# EAGLE library part MWSUB3G (library signpost)
An RF Spectrum analyzer module
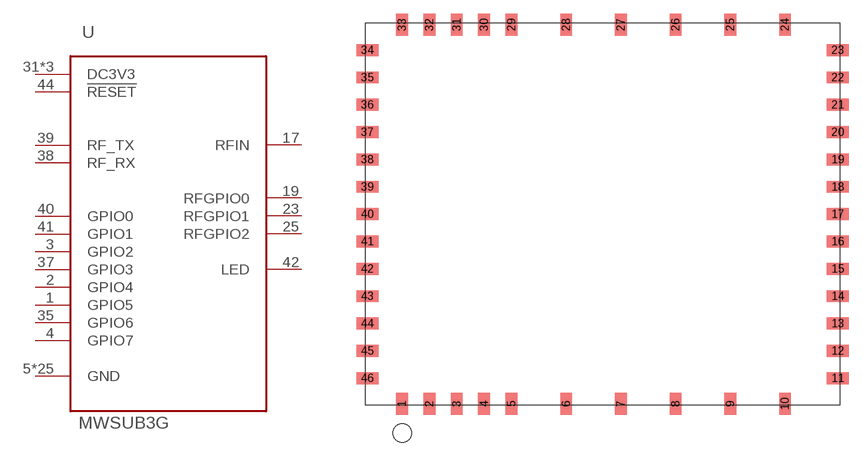
[diagram p28: symbol with the pads of MWSUB3G; footprint MWSUB3G]

Designator prefix U

## MWSUB3G (MANUFACTURER: RFExplorer; MPN: MWSUB3G)  [MWSUB3G]
1  GPIO5
2  GPIO4
3  GPIO2
4  GPIO7
5  GND
6  GND
7  GND
8  GND
9  GND
10  GND
11  GND
12  GND
13  GND
14  GND
15  GND
16  GND
17  RFIN
18  GND
19  RFGPIO0
20  GND
21  GND
22  GND
23  RFGPIO1
24  GND
25  RFGPIO2
26  GND
27  GND
28  GND
29  GND
31  DC3V3
32  DC3V3
33  DC3V3
34  GND
35  GPIO6
37  GPIO3
38  RF_RX
39  RF_TX
40  GPIO0
41  GPIO1
42  LED
43  GND
44  !RESET
45  GND
46  GND

## Footprint MWSUB3G (pad centres in mm)
smd 1.3 x 2.4: 1 4,0.2; 2 7,0.2; 3 10,0.2; 4 13,0.2; 5 16,0.2; 6 22,0.2; 7 28,0.2; 8 34,0.2; 9 40,0.2; 10 46,0.2; 24 46,41.8; 25 40,41.8; 26 34,41.8; 27 28,41.8; 28 22,41.8; 29 16,41.8; 30 13,41.8; 31 10,41.8; 32 7,41.8; 33 4,41.8
smd 2.4 x 1.3: 11 51.8,3; 12 51.8,6; 13 51.8,9; 14 51.8,12; 15 51.8,15; 16 51.8,18; 17 51.8,21; 18 51.8,24; 19 51.8,27; 20 51.8,30; 21 51.8,33; 22 51.8,36; 23 51.8,39; 34 0.2,39; 35 0.2,36; 36 0.2,33; 37 0.2,30; 38 0.2,27; 39 0.2,24; 40 0.2,21; 41 0.2,18; 42 0.2,15; 43 0.2,12; 44 0.2,9; 45 0.2,6; 46 0.2,3